# EAGLE library part ?8B-XH (library con-jst-xh)
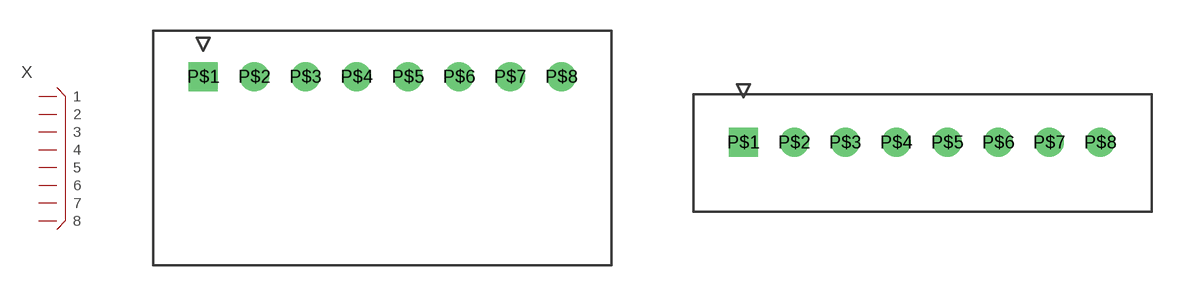
[diagram p2: symbol with the pads of S8B-XH; footprints S8B-XH, B8B-XH]

Designator prefix X

## S8B-XH  [S8B-XH]
P$1  1
P$2  2
P$3  3
P$4  4
P$5  5
P$6  6
P$7  7
P$8  8

## B8B-XH  [B8B-XH]
Pads as for S8B-XH

## Footprint S8B-XH (pad centres in mm)
drill 0.9 pad 1.422 square: P$1 0,0
drill 0.9 pad 1.422: P$2 2.5,0; P$3 5,0; P$4 7.5,0; P$5 10,0; P$6 12.5,0; P$7 15,0; P$8 17.5,0

## Footprint B8B-XH (pad centres in mm)
drill 0.9 pad 1.422 square: P$1 0,0
drill 0.9 pad 1.422: P$2 2.5,0; P$3 5,0; P$4 7.5,0; P$5 10,0; P$6 12.5,0; P$7 15,0; P$8 17.5,0